# Altium integrated library Relay.IntLib: 2 symbols
Pins are listed as number, name and electrical type; pins without a type are passive.

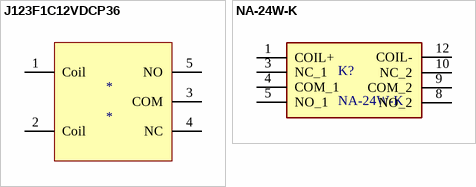
[diagram p0: symbols J123F1C12VDCP36 to NA-24W-K]

## J123F1C12VDCP36
designator *
footprint J123F1C12VDCP36
pins: 1 Coil, 2 Coil, 3 COM, 4 NC, 5 NO

## NA-24W-K
designator K?
footprint NA-24W-K
pins: 1 COIL+, 3 NC_1, 4 COM_1, 5 NO_1, 8 NO_2, 9 COM_2, 10 NC_2, 12 COIL-